# Altium schematic symbol library LEDs-0603.SchLib: 3 symbols
Pins are listed as number, name and electrical type; pins without a type are passive.

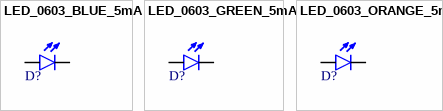
[diagram p0: symbols LED_0603_BLUE_5mA to LED_0603_ORANGE_5mA]

## LED_0603_BLUE_5mA
designator D?
PartNumber: LTST-C193TBKT-5A; Manufacturer: Lite-On Inc.; PackageReference: 0603; PackageDescription: 0603 (1608 Metric); Mounting Technology: Surface Mount
footprint LED0603
pins: A, C

## LED_0603_GREEN_5mA
designator D?
PartNumber: LTST-C193TGKT-5A; Manufacturer: Lite-On Inc.; PackageReference: 0603; PackageDescription: 0603 (1608 Metric); Mounting Technology: Surface Mount
footprint LED0603
pins: A, C

## LED_0603_ORANGE_5mA
designator D?
PartNumber: LTST-C193KFKT-5A; Manufacturer: Lite-On Inc.; PackageReference: 0603; PackageDescription: 0603 (1608 Metric); Mounting Technology: Surface Mount
footprint LED0603
pins: A, C